# Altium footprint library PX4FMUv2.4.6.PcbLib: 48 footprints (part 3 of 3)
Each footprint in its own frame and in the unit in brackets; x right, y up, seen from the top. Pads: shape width x height; smd on the part's side, far side on the other; paste and mask are expansions set on the pad; w line width, h text height; cw(c..) or ccw(c..) is an arc to the next point about the centre after c.
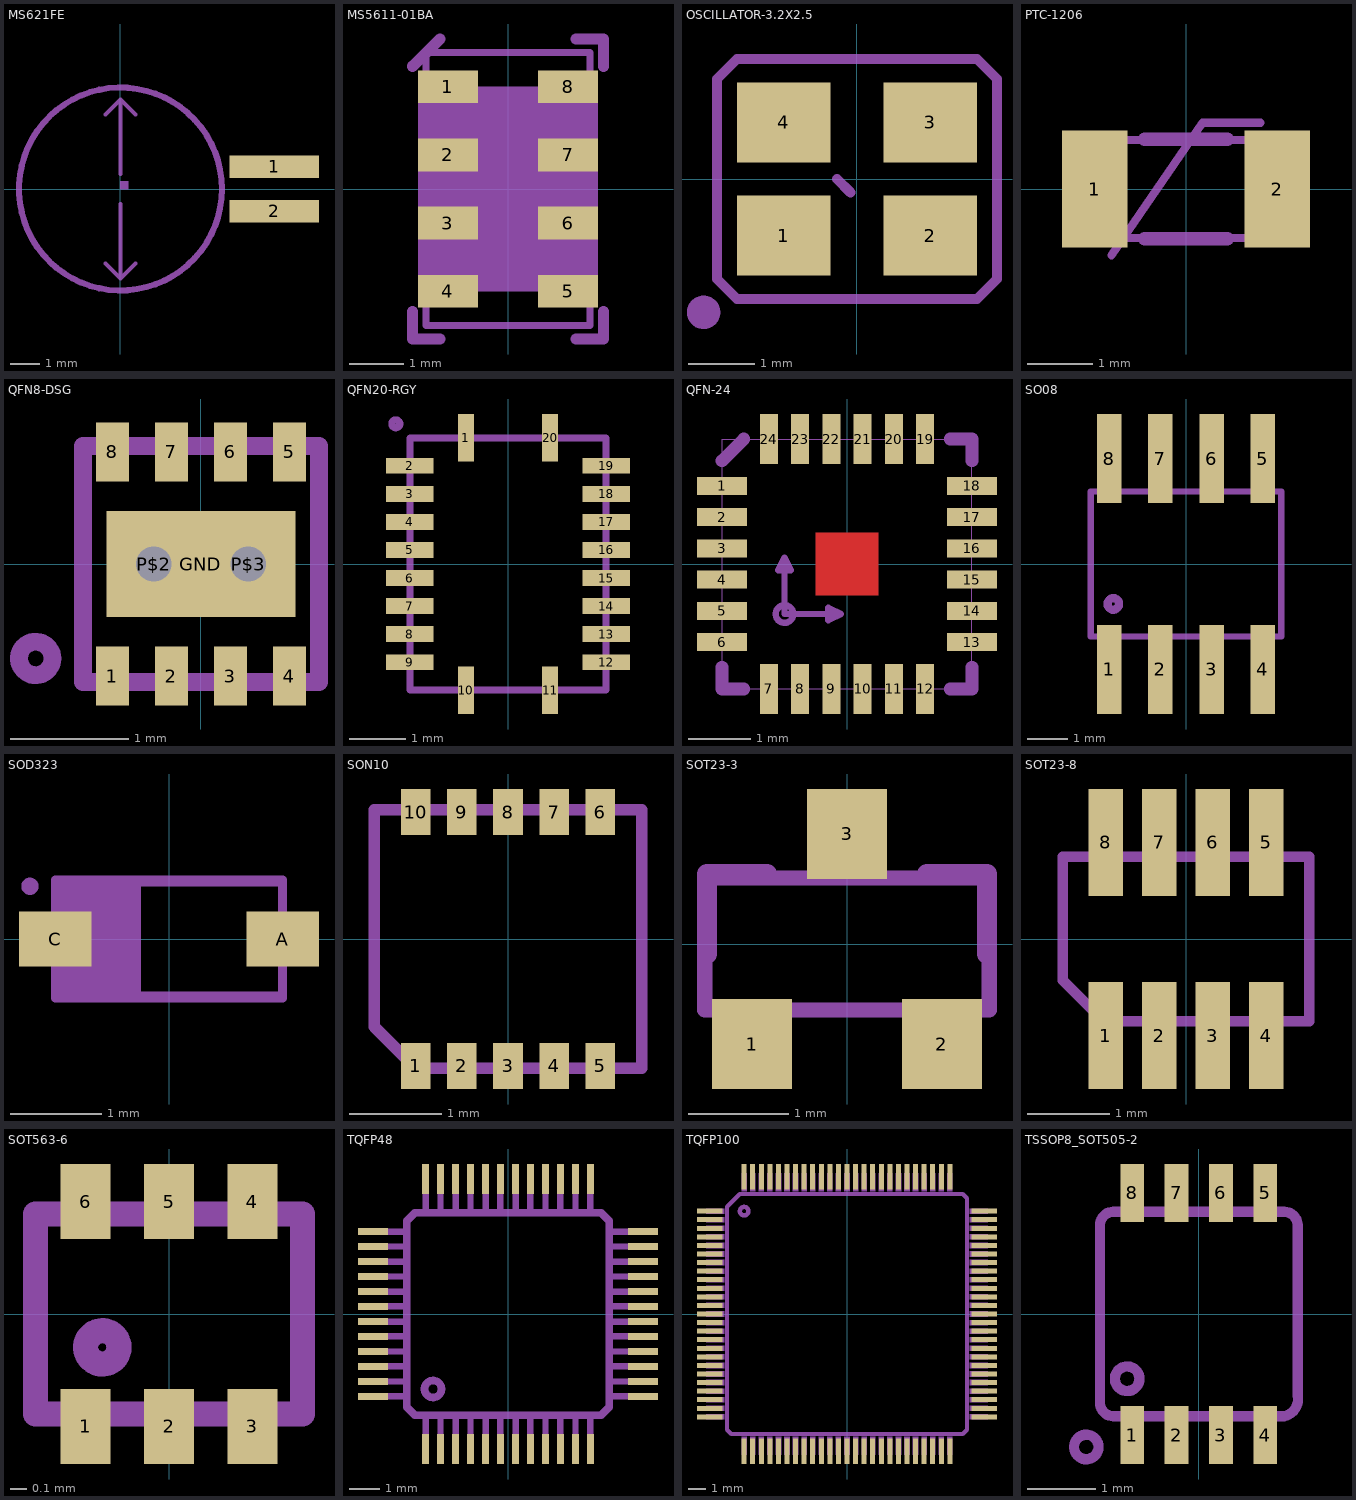
[diagram p2: the footprints below, top view; thin cyan lines are the x and y axes]

## MS621FE [mm] "MS621FE"
pads (2):
  rect 3x0.75 smd: 1(5.15,0.75) 2(5.15,-0.75)
Mechanical 8:
  region: 0,0 0.254,0 0.254,0.254 0,0.254
  region: 0,0 0.254,0 0.254,0.254 0,0.254
  lines w0.127: -0.5,-2.5 0,-3 ; -0.5,2.5 0,3 ; 0,-0.5 0,-3 ; 0,0.5 0,3 ; 0.5,-2.5 0,-3 ; 0.5,2.5 0,3
Mechanical 16:
  circle w0.203: c0,0 r3.4

## MS5611-01BA [mm] "MS5611-01BA"
pads (8):
  rect 1.1x0.6 smd: 1(-1.1,1.875) 2(-1.1,0.625) 3(-1.1,-0.625) 4(-1.1,-1.875) 5(1.1,-1.875) 6(1.1,-0.625) 7(1.1,0.625) 8(1.1,1.875)
Mechanical 8:
  lines w0.127: -1.5,-2.5 1.5,-2.5 1.5,2.5 -1.5,2.5 -1.5,-2.5
Mechanical 16:
  region: -1.65,-1.875 -1.65,1.875 1.65,1.875 1.65,-1.875
  lines w0.002: -1.5,-2.5 1.5,-2.5 1.5,2.5 -1.5,2.5 -1.5,-2.5
  lines w0.203: -1.75,-2.25 -1.75,-2.75 -1.25,-2.75 ; -1.75,2.25 -1.25,2.75 ; 1.25,-2.75 1.75,-2.75 1.75,-2.25 ; 1.25,2.75 1.75,2.75 1.75,2.25

## OSCILLATOR-3.2X2.5 [mm] "OSCILLATOR-3.2X2.5"
pads (4):
  rect 1.4x1.2 smd: 1(-1.1,-0.85) 2(1.1,-0.85) 3(1.1,0.85) 4(-1.1,0.85)
Mechanical 16:
  circle w0.3: c-2.3,-2 r0.1
  lines w0.001: -2.1,-1.5 -2.1,1.5 -1.8,1.8 1.8,1.8 2.1,1.5 2.1,-1.5 1.8,-1.8 -1.8,-1.8 -2.1,-1.5
  lines w0.15: -0.3,0 -0.1,-0.2 ; -2.1,-1.5 -2.1,1.5 -1.8,1.8 1.8,1.8 2.1,1.5 2.1,-1.5 1.8,-1.8 -1.8,-1.8 -2.1,-1.5

## PTC-1206 [mm] "PTC-1206"
pads (2):
  rect 1x1.8 smd: 1(-1.4,0) 2(1.4,0)
Mechanical 8:
  lines w0.127: -1.143,-1.016 0.254,1.016 1.143,1.016 ; -1.5,-0.75 1.5,-0.75 1.5,0.75 -1.5,0.75 -1.5,-0.75
Mechanical 16:
  lines w0.203: -0.635,-0.762 0.635,-0.762 ; -0.635,0.762 0.635,0.762

## QFN8-DSG [mm] "QFN8-DSG"
pads (11):
  rect 0.28x0.5 smd: 1(-0.75,-0.95) 2(-0.25,-0.95) 3(0.25,-0.95) 4(0.75,-0.95) 5(0.75,0.95) 6(0.25,0.95) 7(-0.25,0.95) 8(-0.75,0.95)
  rect 1.6x0.9 smd: GND(0,0)
  rect 0.55x0.55 / inner rect 1.524x1.524 / far side rect 0.55x0.55 hole 0.3: P$2(-0.4,0) P$3(0.4,0)
Mechanical 8:
  lines w0.15: -1,-1 1,-1 ; -1,1 1,1
Mechanical 16:
  circle w0.15: c-1.4,-0.8 r0.141
  lines w0.15: -1,-1 -1,1 ; 1,-1 1,1

## QFN20-RGY [mm] "QFN20-RGY"
pads (20):
  rect 0.28x0.85 smd: 1(-0.75,2.25) 10(-0.75,-2.25) 11(0.75,-2.25) 20(0.75,2.25)
  rect 0.85x0.28 smd: 2(-1.75,1.75) 3(-1.75,1.25) 4(-1.75,0.75) 5(-1.75,0.25) 6(-1.75,-0.25) 7(-1.75,-0.75) 8(-1.75,-1.25) 9(-1.75,-1.75) 12(1.75,-1.75) 13(1.75,-1.25) 14(1.75,-0.75) 15(1.75,-0.25) 16(1.75,0.25) 17(1.75,0.75) 18(1.75,1.25) 19(1.75,1.75)
Mechanical 16:
  circle w0.127: c-2,2.5 r0.071
  lines w0.127: -1.75,-2.25 1.75,-2.25 1.75,2.25 -1.75,2.25 -1.75,-2.25

## QFN-24 [mm] "QFN-24"
pads (24):
  rect 0.8x0.29 smd: 1(-2,1.25) 2(-2,0.75) 3(-2,0.25) 4(-2,-0.25) 5(-2,-0.75) 6(-2,-1.25) 13(2,-1.25) 14(2,-0.75) 15(2,-0.25) 16(2,0.25) 17(2,0.75) 18(2,1.25)
  rect 0.29x0.8 smd: 7(-1.25,-2) 8(-0.75,-2) 9(-0.25,-2) 10(0.25,-2) 11(0.75,-2) 12(1.25,-2) 19(1.25,2) 20(0.75,2) 21(0.25,2) 22(-0.25,2) 23(-0.75,2) 24(-1.25,2)
Top Layer:
  region: -0.5,-0.5 -0.5,0.5 0.5,0.5 0.5,-0.5
Top Paste:
  region: -0.3,-0.3 -0.3,0.3 0.3,0.3 0.3,-0.3
Top Solder:
  region: -0.5,-0.5 -0.5,0.5 0.5,0.5 0.5,-0.5
Mechanical 16:
  circle w0.1: c-1,-0.8 r0.141
  lines w0.001: -2,-2 -2,2 2,2 2,-2 -2,-2
  lines w0.1: -1,0.1 -1,-0.8 -0.1,-0.8 ; -1,0.1 -1.1,-0.1 -0.9,-0.1 -1,0.1 ; -0.1,-0.8 -0.3,-0.9 -0.3,-0.7 -0.1,-0.8
  lines w0.203: -2,-1.65 -2,-2 -1.65,-2 ; -2,1.65 -1.65,2 ; 1.65,-2 2,-2 2,-1.65 ; 1.65,2 2,2 2,1.65

## SO08 [mil] "SO08"
pads (8):
  rect 24x87 smd: 1(-75,-103) 2(-25,-103) 3(25,-103) 4(75,-103) 5(75,103) 6(25,103) 7(-25,103) 8(-75,103)
Mechanical 8:
  region: -82,-113 -82,-73 -68,-73 -68,-113
  region: -32,-113 -32,-73 -18,-73 -18,-113
  region: 18,-113 18,-73 32,-73 32,-113
  region: 68,-113 68,-73 82,-73 82,-113
  region: -82,73 -82,113 -68,113 -68,73
  region: -32,73 -32,113 -18,113 -18,73
  region: 18,73 18,113 32,113 32,73
  region: 68,73 68,113 82,113 82,73
  lines w6: -92.99,-70.98 92.99,-70.98 ; -92.99,70.98 92.99,70.98
Mechanical 16:
  circle w8: c-71,-39 r5.65
  lines w6: -92.99,-70.98 -92.99,70.98 ; 92.99,-70.98 92.99,70.98

## SOD323 [mil] "SOD323"
pads (2):
  rect 31.5x23.62 smd: A(49.21,0) C(-49.21,0)
Mechanical 8:
  region: 51.18,-7.87 51.18,7.87 61.02,7.87 61.02,-7.87
  region: -61.02,-7.87 -61.02,7.87 -49.21,7.87 -49.21,-7.87
  region: -49.21,-24.61 -49.21,24.61 -12.3,24.61 -12.3,-24.61
  lines w3.94: -49.21,-24.61 -49.21,24.61 49.21,24.61 49.21,-24.61 -49.21,-24.61
Mechanical 16:
  circle w3.94: c-60.24,22.83 r1.76
  lines w3.94: -49.21,-19.69 -49.21,-25.59 49.21,-25.59 49.21,-19.69 ; -49.21,19.69 -49.21,25.59 49.21,25.59 49.21,19.69

## SON10 [mm] "SON10"
pads (10):
  rect 0.32x0.5 smd: 1(-1,-1.375) 2(-0.5,-1.375) 3(0,-1.375) 4(0.5,-1.375) 5(1,-1.375) 6(1,1.375) 7(0.5,1.375) 8(0,1.375) 9(-0.5,1.375) 10(-1,1.375)
Mechanical 8:
  lines w0.127: -1.45,-0.95 -1,-1.4 1.45,-1.4 ; -1.45,1.4 1.45,1.4
Mechanical 16:
  lines w0.127: -1.45,-0.95 -1.45,1.4 ; 1.45,-1.4 1.45,1.4

## SOT23-3 [mil] "SOT23-3"
pads (3):
  rect 31.5x35.43 smd: 1(-37.4,-39.37) 2(37.4,-39.37) 3(0,43.31)
Mechanical 8:
  lines w6: -56,-26 56,-26 56,26 -56,26 -56,-26
Mechanical 16:
  lines w8: -55.12,-3.94 -55.12,27.56 -31.5,27.56 ; 31.5,27.56 55.12,27.56 55.12,-3.94

## SOT23-8 [mm] "SOT23-8"
pads (8):
  rect 0.42x1.3 smd: 1(-0.975,-1.175) 2(-0.325,-1.175) 3(0.325,-1.175) 4(0.975,-1.175) 5(0.975,1.175) 6(0.325,1.175) 7(-0.325,1.175) 8(-0.975,1.175)
Mechanical 16:
  lines w0.127: -1.5,-0.5 -1.5,1 1.5,1 1.5,-1 -1,-1 -1.5,-0.5

## SOT563-6 [mm] "SOT563-6"
pads (6):
  rect 0.3x0.45 smd: 1(-0.5,-0.675) 2(0,-0.675) 3(0.5,-0.675) 4(0.5,0.675) 5(0,0.675) 6(-0.5,0.675)
Mechanical 8:
  lines w0.15: -0.8,-0.6 0.8,-0.6 ; -0.8,0.6 0.8,0.6
Mechanical 16:
  circle w0.15: c-0.4,-0.2 r0.1
  lines w0.15: -0.8,-0.6 -0.8,0.6 ; 0.8,-0.6 0.8,0.6

## TQFP48 [mm] "TQFP48"
pads (48):
  rect 0.24x1 smd: 1(-2.75,-4.5) 2(-2.25,-4.5) 3(-1.75,-4.5) 4(-1.25,-4.5) 5(-0.75,-4.5) 6(-0.25,-4.5) 7(0.25,-4.5) 8(0.75,-4.5) 9(1.25,-4.5) 10(1.75,-4.5) 11(2.25,-4.5) 12(2.75,-4.5) 25(2.75,4.5) 26(2.25,4.5) 27(1.75,4.5) 28(1.25,4.5) 29(0.75,4.5) 30(0.25,4.5) 31(-0.25,4.5) 32(-0.75,4.5) 33(-1.25,4.5) 34(-1.75,4.5) 35(-2.25,4.5) 36(-2.75,4.5)
  rect 1x0.24 smd: 13(4.5,-2.75) 14(4.5,-2.25) 15(4.5,-1.75) 16(4.5,-1.25) 17(4.5,-0.75) 18(4.5,-0.25) 19(4.5,0.25) 20(4.5,0.75) 21(4.5,1.25) 22(4.5,1.75) 23(4.5,2.25) 24(4.5,2.75) 37(-4.5,2.75) 38(-4.5,2.25) 39(-4.5,1.75) 40(-4.5,1.25) 41(-4.5,0.75) 42(-4.5,0.25) 43(-4.5,-0.25) 44(-4.5,-0.75) 45(-4.5,-1.25) 46(-4.5,-1.75) 47(-4.5,-2.25) 48(-4.5,-2.75)
Mechanical 8:
  drawing of 48 lines, arcs and shapes, not listed
Mechanical 16:
  circle w0.254: c-2.5,-2.5 r0.283
  lines w0.002: -3.4,-3.1 -3.1,-3.4 3.1,-3.4 3.4,-3.1 3.4,3.1 3.1,3.4 -3.1,3.4 -3.4,3.1 -3.4,-3.1
  lines w0.254: -3.375,-3.1 -3.1,-3.375 3.1,-3.375 3.375,-3.1 3.375,3.1 3.1,3.375 -3.1,3.375 -3.375,3.1 -3.375,-3.1

## TQFP100 [mm] "TQFP100"
pads (100):
  rect 1.5x0.29 smd: 1(-8,6) 2(-8,5.5) 3(-8,5) 4(-8,4.5) 5(-8,4) 6(-8,3.5) 7(-8,3) 8(-8,2.5) 9(-8,2) 10(-8,1.5) 11(-8,1) 12(-8,0.5) 13(-8,0) 14(-8,-0.5) 15(-8,-1) 16(-8,-1.5) 17(-8,-2) 18(-8,-2.5) 19(-8,-3) 20(-8,-3.5) 21(-8,-4) 22(-8,-4.5) 23(-8,-5) 24(-8,-5.5) 25(-8,-6) 51(8,-6) 52(8,-5.5) 53(8,-5) 54(8,-4.5) 55(8,-4) 56(8,-3.5) 57(8,-3) 58(8,-2.5) 59(8,-2) 60(8,-1.5) 61(8,-1) 62(8,-0.5) 63(8,0) 64(8,0.5) 65(8,1) 66(8,1.5) 67(8,2) 68(8,2.5) 69(8,3) 70(8,3.5) 71(8,4) 72(8,4.5) 73(8,5) 74(8,5.5) 75(8,6)
  rect 0.29x1.5 smd: 26(-6,-8) 27(-5.5,-8) 28(-5,-8) 29(-4.5,-8) 30(-4,-8) 31(-3.5,-8) 32(-3,-8) 33(-2.5,-8) 34(-2,-8) 35(-1.5,-8) 36(-1,-8) 37(-0.5,-8) 38(0,-8) 39(0.5,-8) 40(1,-8) 41(1.5,-8) 42(2,-8) 43(2.5,-8) 44(3,-8) 45(3.5,-8) 46(4,-8) 47(4.5,-8) 48(5,-8) 49(5.5,-8) 50(6,-8) 76(6,8) 77(5.5,8) 78(5,8) 79(4.5,8) 80(4,8) 81(3.5,8) 82(3,8) 83(2.5,8) 84(2,8) 85(1.5,8) 86(1,8) 87(0.5,8) 88(0,8) 89(-0.5,8) 90(-1,8) 91(-1.5,8) 92(-2,8) 93(-2.5,8) 94(-3,8) 95(-3.5,8) 96(-4,8) 97(-4.5,8) 98(-5,8) 99(-5.5,8) 100(-6,8)
Mechanical 8:
  drawing of 100 lines, arcs and shapes, not listed
Mechanical 16:
  circle w0.254: c-6,6 r0.25
  lines w0.002: -7,-6.7 -6.7,-7 6.7,-7 7,-6.7 7,6.7 6.7,7 -6.3,7 -7,6.3 -7,-6.7
  lines w0.254: -7,-6.75 -6.75,-7 6.75,-7 7,-6.75 7,6.75 6.75,7 -6.25,7 -7,6.25 -7,-6.75

## TSSOP8_SOT505-2 [mm] "TSSOP8_SOT505-2"
pads (8):
  rect 0.35x0.85 smd: 1(-0.975,-1.775) 2(-0.325,-1.775) 3(0.325,-1.775) 4(0.975,-1.775) 5(0.975,1.775) 6(0.325,1.775) 7(-0.325,1.775) 8(-0.975,1.775)
Mechanical 8:
  circle w0.15: c-1.05,-0.95 r0.18
  region: -1.1,-2 -1.1,-1.55 -0.85,-1.55 -0.85,-2
  region: -0.45,-2 -0.45,-1.55 -0.2,-1.55 -0.2,-2
  region: 0.2,-2 0.2,-1.55 0.45,-1.55 0.45,-2
  region: 0.85,-2 0.85,-1.55 1.1,-1.55 1.1,-2
  region: -1.1,1.55 -1.1,2 -0.85,2 -0.85,1.55
  region: -0.45,1.55 -0.45,2 -0.2,2 -0.2,1.55
  region: 0.2,1.55 0.2,2 0.45,2 0.45,1.55
  region: 0.85,1.55 0.85,2 1.1,2 1.1,1.55
  lines w0.15: -1.45,-1.3 ccw(c-1.25,-1.3) -1.25,-1.5 1.25,-1.5 ccw(c1.2,-1.25) 1.45,-1.2 1.45,1.3 ccw(c1.25,1.3) 1.25,1.5 -1.25,1.5 ccw(c-1.25,1.3) -1.45,1.3 -1.45,-1.3
Mechanical 16:
  circle w0.15: c-1.65,-1.95 r0.18
  lines w0.001: -1.45,-1.35 -1.3,-1.5 1.3,-1.5 1.45,-1.35 1.45,1.35 1.3,1.5 -1.3,1.5 -1.45,1.35 -1.45,-1.35
  lines w0.15: -1.45,-1 -1.45,1 ; 1.45,-1 1.45,1